# Altium footprint library openbook.PcbLib: 46 footprints (part 3 of 3)
Each footprint in its own frame and in the unit in brackets; x right, y up, seen from the top. Pads: shape width x height; smd on the part's side, far side on the other; paste and mask are expansions set on the pad; w line width, h text height; cw(c..) or ccw(c..) is an arc to the next point about the centre after c.
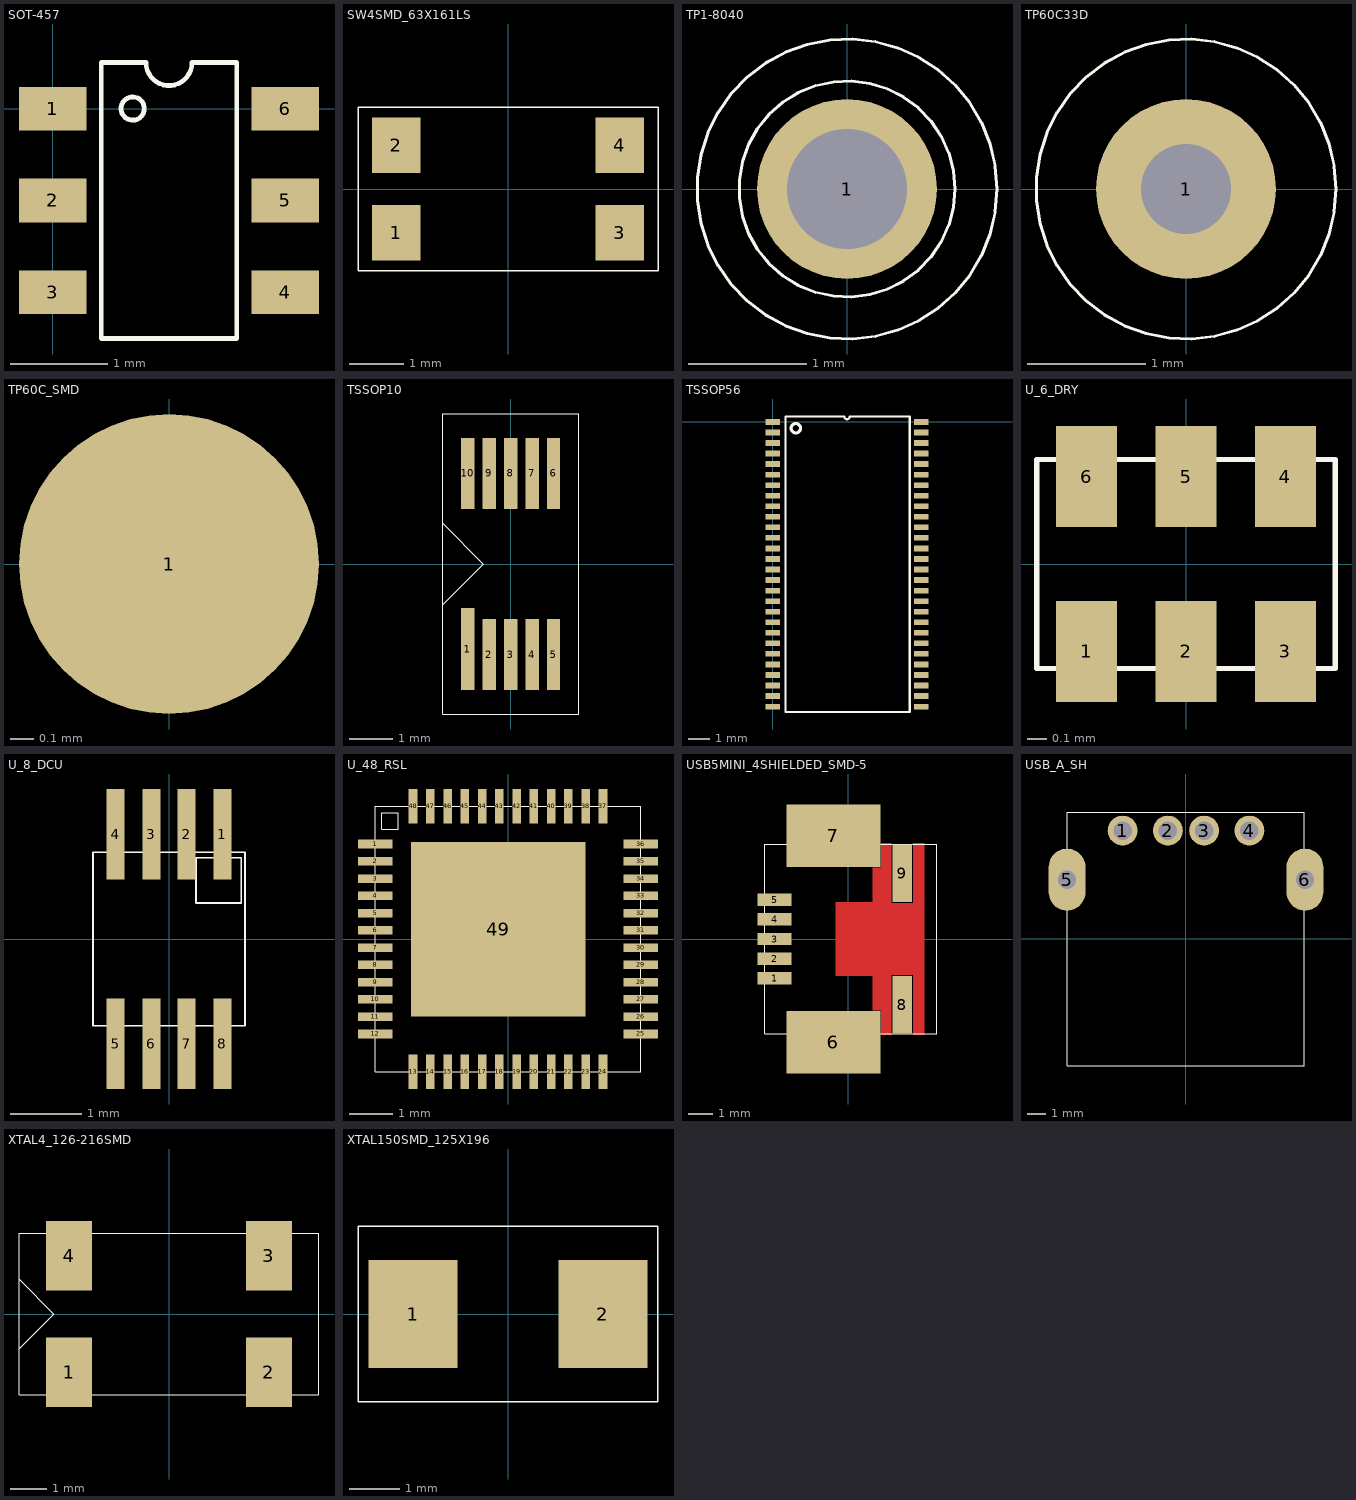
[diagram p2: the footprints below, top view; thin cyan lines are the x and y axes]

## SOT-457 [mm]
pads (6):
  rect 0.7x0.45 smd: 1(0,0) 2(0,-0.95) 4(2.4,-1.9) 5(2.4,-0.95) 6(2.4,0)
  rect 0.7x0.45 smd mask+0.102: 3(0,-1.9)
Top Overlay:
  circle w0.05: c0.825,0 r0.12
  lines w0.05: 0.5,-2.375 0.5,0.475 0.962,0.475 ccw(c1.2,0.475) 1.438,0.475 1.9,0.475 1.9,-2.375 0.5,-2.375

## SW4SMD_63X161LS [mil]
pads (4):
  rect 35x40 smd mask+2: 1(-80.71,-31.5) 2(-80.71,31.5) 3(80.71,-31.5) 4(80.71,31.5)
Top Overlay:
  lines w1: -108.27,-59.06 108.27,-59.06 108.27,59.06 -108.27,59.06 -108.27,-59.06

## TP1-8040 [mil]
pads (1):
  round 60 hole 40 mask+2: 1(0,0)
Top Overlay:
  circle w1: c0,0 r36
  circle w1: c0,0 r50

## TP60C33D [mil]
pads (1):
  round 60 hole 30 mask+2: 1(0,0)
Top Overlay:
  circle w1: c0,0 r50

## TP60C_SMD [mil]
pads (1):
  round 50 smd mask+2: 1(0,0)

## TSSOP10 [mil]
pads (10):
  rect 12x75 smd mask+2: 1(-39.37,-78)
  rect 12x65 smd mask+2: 2(-19.69,-83) 3(0,-83) 4(19.69,-83) 5(39.37,-83) 6(39.37,83) 7(19.69,83) 8(0,83) 9(-19.69,83) 10(-39.37,83)
Top Overlay:
  lines w1: -62.5,-37.5 -25,0 -62.5,37.5 ; -62.5,-137.5 -62.5,137.5 62.5,137.5 62.5,-137.5 -62.5,-137.5

## TSSOP56 [mm]
pads (56):
  rect 0.7x0.27 smd mask+0.075: 1(0,0) 2(0,-0.5) 3(0,-1) 4(0,-1.5) 5(0,-2) 6(0,-2.5) 7(0,-3) 8(0,-3.5) 9(0,-4) 10(0,-4.5) 11(0,-5) 12(0,-5.5) 13(0,-6) 14(0,-6.5) 15(0,-7) 16(0,-7.5) 17(0,-8) 18(0,-8.5) 19(0,-9) 20(0,-9.5) 21(0,-10) 22(0,-10.5) 23(0,-11) 24(0,-11.5) 25(0,-12) 26(0,-12.5) 27(0,-13) 28(0,-13.5) 29(7.05,-13.5) 30(7.05,-13) 31(7.05,-12.5) 32(7.05,-12) 33(7.05,-11.5) 34(7.05,-11) 35(7.05,-10.5) 36(7.05,-10) 37(7.05,-9.5) 38(7.05,-9) 39(7.05,-8.5) 40(7.05,-8) 41(7.05,-7.5) 42(7.05,-7) 43(7.05,-6.5) 44(7.05,-6) 45(7.05,-5.5) 46(7.05,-5) 47(7.05,-4.5) 48(7.05,-4) 49(7.05,-3.5) 50(7.05,-3) 51(7.05,-2.5) 52(7.05,-2) 53(7.05,-1.5) 54(7.05,-1) 55(7.05,-0.5) 56(7.05,0)
Top Overlay:
  circle w0.15: c1.1,-0.3 r0.224
  lines w0.1: 0.6,-13.75 0.6,0.25 3.4,0.25 ccw(c3.525,0.25) 3.65,0.25 6.5,0.25 6.5,-13.75 0.6,-13.75

## U_6_DRY [mil]
pads (6):
  rect 12x20 smd mask+2: 1(-19.68,-17.28) 2(0,-17.28) 3(19.68,-17.28) 4(19.68,17.28) 5(0,17.28) 6(-19.68,17.28)
Top Overlay:
  lines w1: -29.53,-20.67 -29.53,20.67 29.53,20.67 29.53,-20.67 -29.53,-20.67

## U_8_DCU [mil]
pads (8):
  rect 10x50 smd mask+2: 1(29.5,58) 2(9.8,58) 3(-9.8,58) 4(-29.5,58) 5(-29.5,-58) 6(-9.8,-58) 7(9.8,-58) 8(29.5,-58)
Top Overlay:
  lines w1: -42,-48 42,-48 42,48 -42,48 -42,-48 ; 15,20 40,20 40,45 15,45 15,20

## U_48_RSL [mil]
pads (49):
  rect 31.5x7.87 smd mask+2: 1(-121.06,86.61) 2(-121.06,70.87) 3(-121.06,55.12) 4(-121.06,39.37) 5(-121.06,23.62) 6(-121.06,7.87) 7(-121.06,-7.87) 8(-121.06,-23.62) 9(-121.06,-39.37) 10(-121.06,-55.12) 11(-121.06,-70.87) 12(-121.06,-86.61) 25(121.06,-86.61) 26(121.06,-70.87) 27(121.06,-55.12) 28(121.06,-39.37) 29(121.06,-23.62) 30(121.06,-7.87) 31(121.06,7.87) 32(121.06,23.62) 33(121.06,39.37) 34(121.06,55.12) 35(121.06,70.87) 36(121.06,86.61)
  rect 7.87x31.5 smd mask+2: 13(-86.61,-121.06) 14(-70.87,-121.06) 15(-55.12,-121.06) 16(-39.37,-121.06) 17(-23.62,-121.06) 18(-7.87,-121.06) 19(7.87,-121.06) 20(23.62,-121.06) 21(39.37,-121.06) 22(55.12,-121.06) 23(70.87,-121.06) 24(86.61,-121.06) 37(86.61,121.06) 38(70.87,121.06) 39(55.12,121.06) 40(39.37,121.06) 41(23.62,121.06) 42(7.87,121.06) 43(-7.87,121.06) 44(-23.62,121.06) 45(-39.37,121.06) 46(-55.12,121.06) 47(-70.87,121.06) 48(-86.61,121.06)
  rect 159.45x159.45 smd mask+2: 49(-8.86,8.86)
Top Overlay:
  lines w1: -121.06,-121.06 -121.06,121.06 121.06,121.06 121.06,-121.06 -121.06,-121.06 ; -115,100 -115,115 -100,115 -100,100 -115,100
Top Paste:
  pour cut-out: 25.64,-70.64 25.64,-25.64 70.64,-25.64 70.64,-70.64
  pour cut-out: -31.36,-70.64 -31.36,-25.64 13.64,-25.64 13.64,-70.64
  pour cut-out: -88.36,-70.64 -88.36,-25.64 -43.36,-25.64 -43.36,-70.64
  pour cut-out: 25.64,43.36 25.64,88.36 70.64,88.36 70.64,43.36
  pour cut-out: -31.36,43.36 -31.36,88.36 13.64,88.36 13.64,43.36
  pour cut-out: -88.36,43.36 -88.36,88.36 -43.36,88.36 -43.36,43.36
  pour cut-out: -88.36,-13.64 -88.36,31.36 -43.36,31.36 -43.36,-13.64
  pour cut-out: -31.36,-13.64 -31.36,31.36 13.64,31.36 13.64,-13.64
  pour cut-out: 25.64,-13.64 25.64,31.36 70.64,31.36 70.64,-13.64

## USB5MINI_4SHIELDED_SMD-5 [mm]
pads (9):
  rect 1.4x0.5 smd mask+0.051: 1(-3,-1.6) 2(-3,-0.8) 3(-3,0) 4(-3,0.8) 5(-3,1.6)
  rect 3.81x2.54 smd mask+0.051: 6(-0.6,-4.2) 7(-0.6,4.2)
  rect 0.8x2.35 smd mask+0.051: 8(2.2,-2.675) 9(2.2,2.675)
Top Layer:
  region: 1.35,-3.9 1.75,-3.9 1.75,-1.45 2.65,-1.45 2.65,-3.9 3.1,-3.9 3.1,3.9 2.65,3.9 2.65,1.45 1.75,1.45 1.75,3.9 1.35,3.9 1.35,2.9 1,2.9 1,1.5 -0.5,1.5 -0.5,-1.5 1,-1.5 1,-2.9 1.35,-2.9
Top Overlay:
  lines w0.025: -3.4,-3.85 3.6,-3.85 3.6,3.85 -3.4,3.85 -3.4,-3.85

## USB_A_SH [mil]
pads (6):
  round 65 hole 40 mask+2: 1(-137.1,235.7) 2(-38.7,235.7) 3(40.1,235.7) 4(138.5,235.7)
  oval 80x135 hole 40 mask+2: 5(-258,129) 6(259.4,129)
Top Overlay:
  lines w1: -258,-275.7 257.8,-275.7 257.8,275.5 -258,275.5 -258,-275.7

## XTAL4_126-216SMD [mil]
pads (4):
  rect 50x75 smd mask+2: 1(-108.2,-63) 2(108.3,-63) 3(108.3,63) 4(-108.2,63)
Top Overlay:
  lines w1: -162.5,-37.5 -125,0 -162.5,37.5 ; -162.5,-87.5 162.5,-87.5 162.5,87.5 -162.5,87.5 -162.5,-87.5

## XTAL150SMD_125X196 [mil]
pads (2):
  rect 70x85 smd mask+2: 1(-74.8,0) 2(74.8,0)
Top Overlay:
  lines w1: -118.11,-68.9 118.11,-68.9 118.11,68.9 -118.11,68.9 -118.11,-68.9